# EAGLE library part LTC3652_MSOP (library ssozonoff)
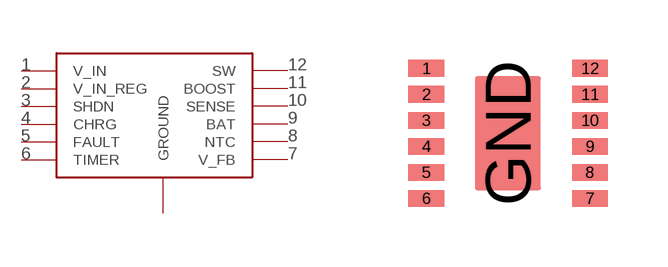
[diagram p2: symbol with the pads of MSOP12; footprint MSOP12]

Designator prefix -

## LTC3652_MSOP  [MSOP12]
1  V_IN  pwr
2  V_IN_REG  pwr
3  SHDN
4  CHRG
5  FAULT
6  TIMER
7  V_FB
8  NTC
9  BAT  pwr
10  SENSE
11  BOOST
12  SW
GND  GROUND

## Footprint MSOP12 (pad centres in mm)
smd 0.889 x 0.42: 1 -2.17,1.55; 2 -2.17,0.9; 3 -2.17,0.25; 4 -2.17,-0.4; 5 -2.17,-1.05; 6 -2.17,-1.7; 7 1.92,-1.7; 8 1.92,-1.05; 9 1.92,-0.4; 10 1.92,0.25; 11 1.92,0.9; 12 1.92,1.55
smd 1.651 x 2.845: GND -0.13,-0.07